# EAGLE library part LOGIC-4503 (library tidyeagle)
4503 Hex Buffer Datasheet: Texas Instruments CD4503B <http://www.ti.com/lit/ds/symlink/cd4503b.pdf> Application Notes: Supply: -0.5V - 20V
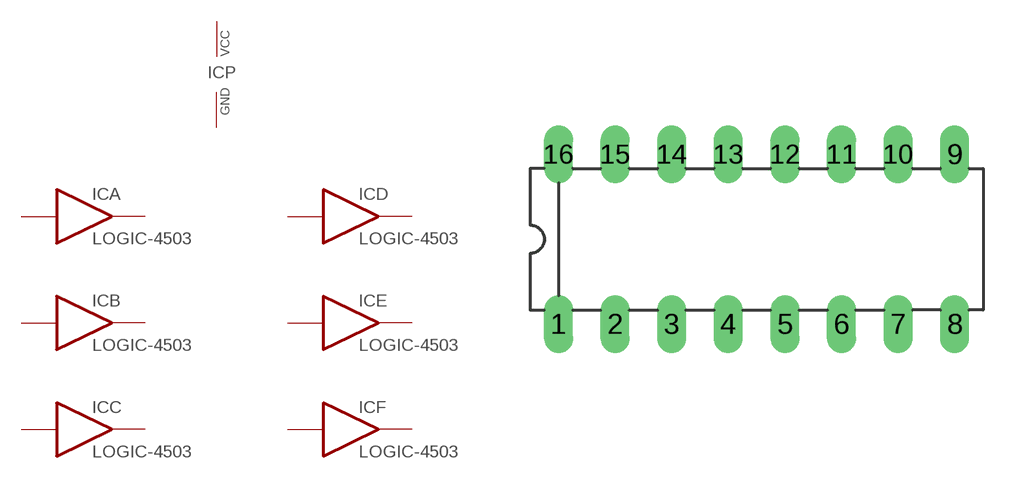
[diagram p27: symbol with the pads of DIL16-3; footprint DIL16-3]

Designator prefix IC; gates A=LOGIC-BUFFER B=LOGIC-BUFFER C=LOGIC-BUFFER D=LOGIC-BUFFER E=LOGIC-BUFFER F=LOGIC-BUFFER P=PWRN

## LOGIC-4503-DIL16  [DIL16-3]
2  A:IN
3  A:OUT
4  B:IN
5  B:OUT
6  C:IN
7  C:OUT
8  P:GND  pwr
9  D:OUT
10  D:IN
11  E:OUT
12  E:IN
13  F:OUT
14  F:IN
16  P:VCC  pwr

## Footprint DIL16-3 (pad centres in mm)
drill 0.8 long: 1 -8.89,-3.81; 2 -6.35,-3.81; 3 -3.81,-3.81; 4 -1.27,-3.81; 5 1.27,-3.81; 6 3.81,-3.81; 7 6.35,-3.81; 8 8.89,-3.81; 9 8.89,3.81; 10 6.35,3.81; 11 3.81,3.81; 12 1.27,3.81; 13 -1.27,3.81; 14 -3.81,3.81; 15 -6.35,3.81; 16 -8.89,3.81